# EAGLE library part PLCC-44C (library untitled)
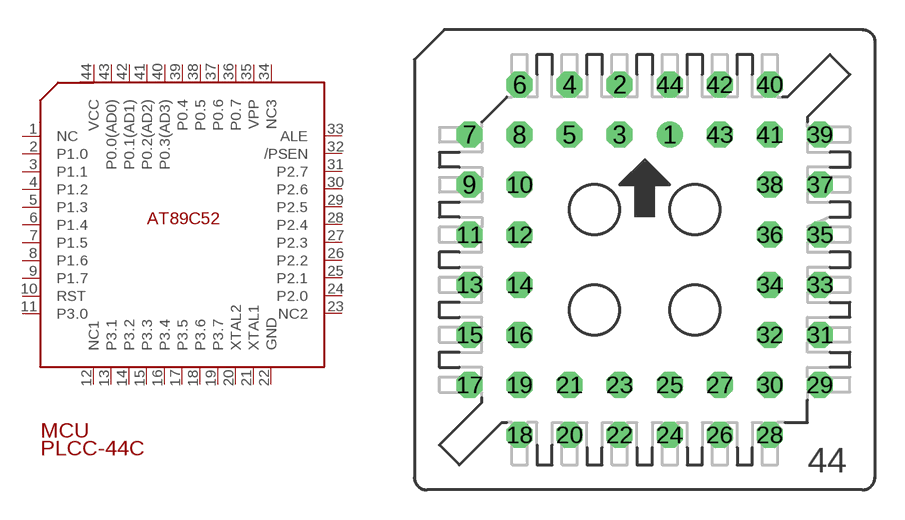
[diagram p0: symbol with the pads of S44; footprint S44]

Designator prefix MCU

## PLCC-44C  [S44]
1  NC  nc
2  P1.0
3  P1.1
4  P1.2
5  P1.3
6  P1.4
7  P1.5
8  P1.6
9  P1.7
10  RST  in
11  P3.0
12  NC1  nc
13  P3.1
14  P3.2
15  P3.3
16  P3.4
17  P3.5
18  P3.6
19  P3.7
20  XTAL2
21  XTAL1
22  GND  pwr
23  NC2  nc
24  P2.0
25  P2.1
26  P2.2
27  P2.3
28  P2.4
29  P2.5
30  P2.6
31  P2.7
32  /PSEN
33  ALE
34  NC3  nc
35  VPP
36  P0.7
37  P0.6
38  P0.5
39  P0.4
40  P0.3(AD3)
41  P0.2(AD2)
42  P0.1(AD1)
43  P0.0(AD0)
44  VCC  pwr

## Footprint S44 (pad centres in mm)
PLCC SOCKET
drill 0.813 round: 1 1.27,6.35
drill 0.813 octagon: 2 -1.27,8.89; 3 -1.27,6.35; 4 -3.81,8.89; 5 -3.81,6.35; 6 -6.35,8.89; 7 -8.89,6.35; 8 -6.35,6.35; 9 -8.89,3.81; 10 -6.35,3.81; 11 -8.89,1.27; 12 -6.35,1.27; 13 -8.89,-1.27; 14 -6.35,-1.27; 15 -8.89,-3.81; 16 -6.35,-3.81; 17 -8.89,-6.35; 18 -6.35,-8.89; 19 -6.35,-6.35; 20 -3.81,-8.89; 21 -3.81,-6.35; 22 -1.27,-8.89; 23 -1.27,-6.35; 24 1.27,-8.89; 25 1.27,-6.35; 26 3.81,-8.89; 27 3.81,-6.35; 28 6.35,-8.89; 29 8.89,-6.35; 30 6.35,-6.35; 31 8.89,-3.81; 32 6.35,-3.81; 33 8.89,-1.27; 34 6.35,-1.27; 35 8.89,1.27; 36 6.35,1.27; 37 8.89,3.81; 38 6.35,3.81; 39 8.89,6.35; 40 6.35,8.89; 41 6.35,6.35; 42 3.81,8.89; 43 3.81,6.35; 44 1.27,8.89